# EAGLE library part CY8C29466-28PIN (library cypress_psoc_V1_0)
Cypress PSoC® 1 - Programmable System on Chip, M8C Based Source Data: http://www.cypress.com/?mpn=CY8C29466-24PVXI LBR Source: http://www.westmarkelectronics.com Thomas W. Moxon Director of Engineering www.westmarkelectronics.com
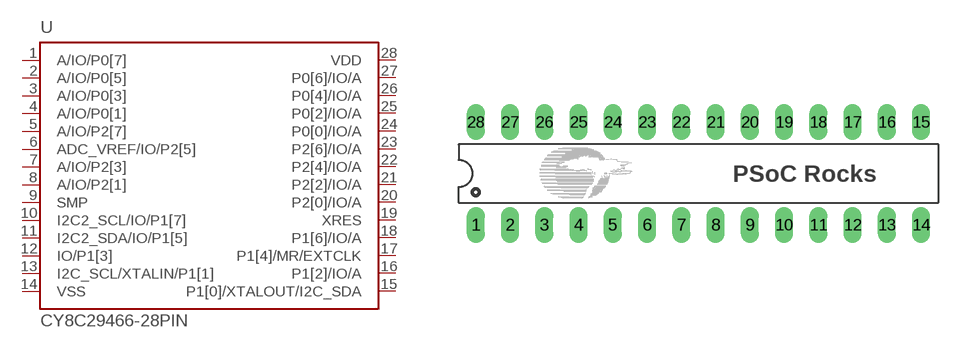
[diagram p7: symbol with the pads of PDIP28; footprint PDIP28]

Designator prefix U

## CY8C29466-28PIN (MPN: CY8C29466-24PVXI)  [PDIP28]
1  A/IO/P0[7]
2  A/IO/P0[5]
3  A/IO/P0[3]
4  A/IO/P0[1]
5  A/IO/P2[7]
6  ADC_VREF/IO/P2[5]
7  A/IO/P2[3]
8  A/IO/P2[1]
9  SMP  pwr
10  I2C2_SCL/IO/P1[7]
11  I2C2_SDA/IO/P1[5]
12  IO/P1[3]
13  I2C_SCL/XTALIN/P1[1]
14  VSS  pwr
15  P1[0]/XTALOUT/I2C_SDA
16  P1[2]/IO/A
17  P1[4]/MR/EXTCLK
18  P1[6]/IO/A
19  XRES  in
20  P2[0]/IO/A
21  P2[2]/IO/A
22  P2[4]/IO/A
23  P2[6]/IO/A
24  P0[0]/IO/A
25  P0[2]/IO/A
26  P0[4]/IO/A
27  P0[6]/IO/A
28  VDD  pwr

## Footprint PDIP28 (pad centres in mm)
PDIP28 Plastic Dual Inline Package with 28 pins (0.3" Width) Data Source: http://www.cypress.com/?docID=19264 LBR Source: http://www.westmarkelectronics.com
drill 0.813 long: 1 -16.51,-3.81; 2 -13.97,-3.81; 3 -11.43,-3.81; 4 -8.89,-3.81; 5 -6.35,-3.81; 6 -3.81,-3.81; 7 -1.27,-3.81; 8 1.27,-3.81; 9 3.81,-3.81; 10 6.35,-3.81; 11 8.89,-3.81; 12 11.43,-3.81; 13 13.97,-3.81; 14 16.51,-3.81; 15 16.51,3.81; 16 13.97,3.81; 17 11.43,3.81; 18 8.89,3.81; 19 6.35,3.81; 20 3.81,3.81; 21 1.27,3.81; 22 -1.27,3.81; 23 -3.81,3.81; 24 -6.35,3.81; 25 -8.89,3.81; 26 -11.43,3.81; 27 -13.97,3.81; 28 -16.51,3.81